# Altium schematic symbol library IC_ROHM_BD4930FVE-TR_3V.SchLib: 1 symbol
Pins are listed as number, name and electrical type; pins without a type are passive.

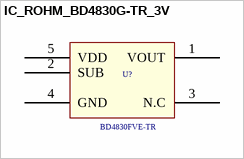
[diagram p0: symbol IC_ROHM_BD4830G-TR_3V]

## IC_ROHM_BD4830G-TR_3V
designator U?  Series: BD4830FVE-TR  (hidden comment: IC_ROHM_BD4830G-TR_3V)
Supervisory Circuits CMOS DETEC VOLT 3.3V; Supplier Part Number 1: 755-BD4830FVE-TR; Supplier 1: Mouser
footprint IC_ROHM_BD4830G-TR_3V
pins: 1 VOUT, 2 SUB, 3 N.C, 4 GND, 5 VDD